# Altium schematic symbol library Resistors-PTH-3W.SchLib: 4 symbols
Pins are listed as number, name and electrical type; pins without a type are passive.

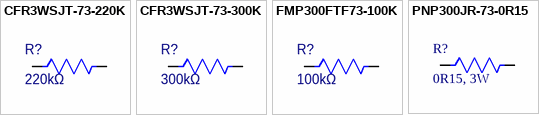
[diagram p0: symbols CFR3WSJT-73-220K to PNP300JR-73-0R15]

## CFR3WSJT-73-220K
designator R?, comment 220kΩ
RES 220K OHM 5% 3W AXIAL; Manufacturer: Yageo Group; Manufacturer Part Number: CFR3WSJT-73-220K; Description: Fixed Resistor, Carbon Film, 3W, 220000ohm, 500V, 5% +/-Tol, -500, 0ppm/Cel, Through Hole Mount; Lead Diameter: 800µm; Working Voltage: 500V; Supplier: DigiKey; Supplier Part Number: CFR3WSJT-73-220K-ND; RoHS: Compliant; Category: Through-Hole Resistors; Pricing: 5000=0.03885 (USD); China RoHS: Compliant; Diameter: 5mm; Length: 15.5mm; Lifecycle Status: Production; Max Operating Temperature: 155°C; Min Operating Temperature: -55°C; Number of Terminals: 2; Power Dissipation: 3W; REACH SVHC: Yes; Value: 220kΩ; Tolerance: 5%; ComponentLink1URL: https://datasheet.octopart.com:443/CFR3WSJT-73-220K-Yageo-datasheet-175860721.pdf?src-supplier=IHS; ComponentLink1Description: https://datasheet.octopart.com:443/CFR3WSJT-73-220K-Yageo-datasheet-175860721.pdf?src-supplier=IHS; ComponentLink2URL: http://sigma.octopart.com:80/conflict_mineral_statement/Yageo-company-3.pdf?src-supplier=Compliance+Statements; ComponentLink2Description: http://sigma.octopart.com:80/conflict_mineral_statement/Yageo-company-3.pdf?src-supplier=Compliance+Statements; ComponentLink3URL: http://sigma.octopart.com:80/rohs_statement/Yageo-company-2.pdf?src-supplier=Compliance+Statements; ComponentLink3Description: http://sigma.octopart.com:80/rohs_statement/Yageo-company-2.pdf?src-supplier=Compliance+Statements
footprint RES-3W-VERTICAL
pins: 1, 2

## CFR3WSJT-73-300K
designator R?, comment 300kΩ
RES 300K OHM 5% 3W AXIAL; Manufacturer: Yageo Group; Manufacturer Part Number: CFR3WSJT-73-300K; Description: Fixed Resistor, Carbon Film, 3W, 300000ohm, 500V, 5% +/-Tol, -500, 0ppm/Cel, Through Hole Mount; Lead Diameter: 800µm; Working Voltage: 500V; Supplier: DigiKey; Supplier Part Number: CFR3WSJT-73-300K-ND; RoHS: Compliant; Category: Through-Hole Resistors; Pricing: 5000=0.03885 (USD); China RoHS: Compliant; Country of Origin: Mainland China, Taiwan; Diameter: 5mm; Export Control Classification Number (ECCN) Code: EAR99; Harmonized Tariff Schedule (HTS) Code: 8533.10.00.65; Introduction Date: 2011-04-02; Length: 15.5mm; Lifecycle Status: Production; Max Operating Temperature: 155°C; Min Operating Temperature: -55°C; Number of Terminals: 2; Power Dissipation: 3W; REACH SVHC: Yes; Value: 300kΩ; Tolerance: 5%; ComponentLink1URL: https://datasheet.octopart.com:443/CFR3WSJT-73-300K-Yageo-datasheet-175860721.pdf?src-supplier=IHS; ComponentLink1Description: https://datasheet.octopart.com:443/CFR3WSJT-73-300K-Yageo-datasheet-175860721.pdf?src-supplier=IHS; ComponentLink2URL: http://sigma.octopart.com:80/conflict_mineral_statement/Yageo-company-3.pdf?src-supplier=Compliance+Statements; ComponentLink2Description: http://sigma.octopart.com:80/conflict_mineral_statement/Yageo-company-3.pdf?src-supplier=Compliance+Statements; ComponentLink3URL: http://sigma.octopart.com:80/rohs_statement/Yageo-company-2.pdf?src-supplier=Compliance+Statements; ComponentLink3Description: http://sigma.octopart.com:80/rohs_statement/Yageo-company-2.pdf?src-supplier=Compliance+Statements
footprint RES-3W-VERTICAL
pins: 1, 2

## FMP300FTF73-100K
designator R?, comment 100kΩ
RES 100K OHM 1% 3W AXIAL; Manufacturer: Yageo Group; Manufacturer Part Number: FMP300FTF73-100K; Lead Diameter: 800µm; Temperature Coefficient: 100ppm/°C; Voltage Rating: 750V; Supplier: DigiKey; Supplier Part Number: 13-FMP300FTF73-100KCT-ND; RoHS: Compliant; Category: Through-Hole Resistors; Stock: 2928; Pricing: 1=0.32, 10=0.204, 25=0.172, 50=0.1522, 100=0.1353, 250=0.11676, 500=0.10514 (USD); Case/Package: Metal; China RoHS: Compliant; Diameter: 5mm; Length: 15.5mm; Lifecycle Status: Production; Max Operating Temperature: 155°C; Min Operating Temperature: -55°C; Mounting Technology: Through Hole; Number of Terminals: 2; Power Dissipation: 3W; Power Rating: 3W; REACH SVHC: Yes; Value: 100kΩ; Termination: Axial; Tolerance: 1%; Working Voltage: 750V; ComponentLink1URL: https://datasheet.octopart.com:443/FMP300FTF73-100K-Yageo-datasheet-175860729.pdf?src-supplier=Newark; ComponentLink1Description: https://datasheet.octopart.com:443/FMP300FTF73-100K-Yageo-datasheet-175860729.pdf?src-supplier=Newark; ComponentLink2URL: http://sigma.octopart.com:80/conflict_mineral_statement/Yageo-company-3.pdf?src-supplier=Compliance+Statements; ComponentLink2Description: http://sigma.octopart.com:80/conflict_mineral_statement/Yageo-company-3.pdf?src-supplier=Compliance+Statements; ComponentLink3URL: http://sigma.octopart.com:80/rohs_statement/Yageo-company-2.pdf?src-supplier=Compliance+Statements; ComponentLink3Description: http://sigma.octopart.com:80/rohs_statement/Yageo-company-2.pdf?src-supplier=Compliance+Statements
footprint RES-3W-VERTICAL
pins: 1, 2

## PNP300JR-73-0R15
designator R?, comment 0R15, 3W
RES 0.15 OHM 5% 3W AXIAL; Manufacturer: Yageo; Manufacturer Part Number: PNP300JR-73-0R15; Manufacturer Series: PNP; Value: 150mR; Working Voltage: 300V; Lead Diameter: 0.8mm; Lead Length: 35mm; Package Diameter: 4.5mm; Package Length: 11.5mm; Supplier: Digikey; Supplier Part Number: 13-PNP300JR-73-0R15CT-ND; RoHS: Yes; Category: Through-Hole Resistors; Stock: 8861; Pricing: 1=0.5, 10=0.335, 25=0.278, 50=0.2352, 100=0.176, 250=0.1568, 500=0.12828, 1000=0.09977 (USD); Pins: 2; Package Shape: Cylindrical; Min Operating Temperature: -40°C; Max Operating Temperature: 200°C; Tolerance: 5%; Resistor Type: FIXED RESISTOR; Construction: Cylindrical; Package Style: AxialMeter; Packaging: Tape and Reel; Power: 3W; Series: PNP; Technology: WIRE WOUND; Reach SVHC Compliant: Yes; RoHS Compliant: Yes; ComponentLink1URL: https://datasheet.ciiva.com:443/pdfs/VipMasterIC/IC/YAGO/YAGOS02178/YAGOS02178-1.pdf?src-supplier=IHS+Markit; ComponentLink1Description: https://datasheet.ciiva.com:443/pdfs/VipMasterIC/IC/YAGO/YAGOS02178/YAGOS02178-1.pdf?src-supplier=IHS+Markit; ComponentLink2URL: https://datasheet.ciiva.com/2725/yageolr-pnp-2013-2725286.pdf?src-supplier=Digikey; ComponentLink2Description: https://datasheet.ciiva.com/2725/yageolr-pnp-2013-2725286.pdf?src-supplier=Digikey; ComponentLink3URL: https://datasheet.ciiva.com/2725/yageolr-pnp-2013-2725287.pdf?src-supplier=Digikey; ComponentLink3Description: https://datasheet.ciiva.com/2725/yageolr-pnp-2013-2725287.pdf?src-supplier=Digikey
footprint RES-0R15-3W
pins: 1, 2